# Altium footprint library MOLEX_76825-0002.PcbLib: 1 footprints
Each footprint in its own frame and in the unit in brackets; x right, y up, seen from the top. Pads: shape width x height; smd on the part's side, far side on the other; paste and mask are expansions set on the pad; w line width, h text height; cw(c..) or ccw(c..) is an arc to the next point about the centre after c.
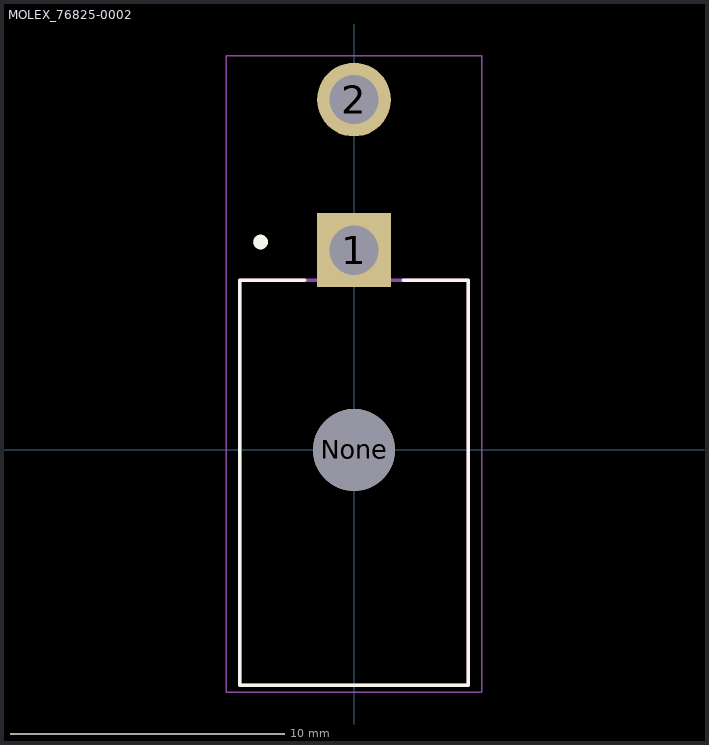
[diagram p0: the footprint, top view; thin cyan lines are the x and y axes]

## MOLEX_76825-0002 [mm]
height 14.53
pads (3):
  rect 2.7x2.7 hole 1.8: 1(0,7.3)
  round 2.7 hole 1.8: 2(0,12.8)
  round 3 hole 3 unplated: None(0,0)
Top Overlay:
  circle w0.3: c-3.414,7.598 r0.116
  lines w0.127: -1.8,6.2 -4.175,6.2 -4.175,-8.6 4.175,-8.6 4.175,6.2 1.8,6.2
Top Assembly:
  circle w0.3: c-3.419,7.595 r0.116
  circle w0.3: c-3.419,7.595 r0.116
  lines w0.127: -4.175,-8.6 -4.175,6.2 ; -4.175,-8.6 4.175,-8.6 ; -4.175,-8.6 -4.175,6.2 ; -4.175,-8.6 4.175,-8.6 ; -4.175,6.2 4.175,6.2 ; -4.175,6.2 4.175,6.2 ; 4.175,-8.6 4.175,6.2 ; 4.175,-8.6 4.175,6.2
Top Courtyard:
  lines w0.05: -4.675,-8.85 -4.675,14.4 4.675,14.4 4.675,-8.85 -4.675,-8.85
  lines w0.1: -0.5,0 0.5,0 ; 0,-0.5 0,0.5
3D body "MOLEX_76825-0002.stp": height 14.57, standoff -3.56, extent -4.175,-8.6 4.175,13.362